# Altium integrated library Maxim Logic Timer.IntLib: 2 symbols
Pins are listed as number, name and electrical type; pins without a type are passive.

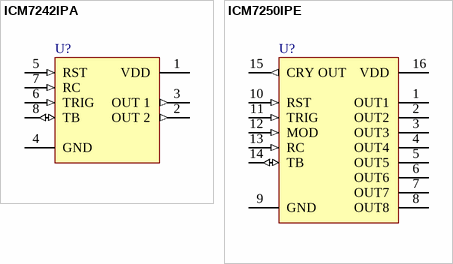
[diagram p0: symbols ICM7242IPA to ICM7250IPE]

## ICM7242IPA
designator U?
Fixed and Programmable Timer/ Counter; Published: 16-Jan-2001; LatestRevisionDate: 29-May-2009; LatestRevisionNote: Component Body Added.; PackageVersion: RevB, 21-0043; PackageReference: PA8; Publisher: Altium Limited; PackageDescription: DIP, 8-Pin, Row Spacing 7.62 mm, Pitch 2.54 mm; Code_JEDEC: MS-001-AB; ComponentLink1Description: Manufacturer Link; ComponentLink1URL: http://www.maxim-ic.com/; ComponentLink2Description: Datasheet; ComponentLink2URL: http://pdfserv.maxim-ic.com/en/ds/ICM7240-ICM7260.pdf
footprint PA8 (DIP, 8-Leads, Row Spacing 7.62mm, Pitch 2.54mm, Body 9.38x7.24mm)
3D model PA8 (DIP, 8-Pin, Row Spacing 7.62 mm, Pitch 2.54 mm)
pins: 1 VDD (power), 2 OUT 2 (out), 3 OUT 1 (out), 4 GND (power), 5 RST (in), 6 TRIG (in), 7 RC (in), 8 TB (io)

## ICM7250IPE
designator U?
Fixed and Programmable Timer/ Counter; Published: 16-Jan-2001; LatestRevisionDate: 29-May-2009; LatestRevisionNote: Component Body Added.; PackageVersion: 1997; PackageReference: PE16A; Publisher: Altium Limited; PackageDescription: DIP, 16-Pin, Row Spacing 7.62 mm, Pitch 2.54 mm; Code_JEDEC: MS-001-BB; ComponentLink1Description: Manufacturer Link; ComponentLink1URL: http://www.maxim-ic.com/; ComponentLink2Description: Datasheet; ComponentLink2URL: http://pdfserv.maxim-ic.com/en/ds/ICM7240-ICM7260.pdf
footprint PE16A (DIP, 16-Leads, Row Spacing 7.62mm, Pitch 2.54mm, Body 19.18x6.99mm)
3D model PE16 (DIP, 16-Pin, Row Spacing 7.62 mm, Pitch 2.54 mm)
pins: 1 OUT1 (oc), 2 OUT2 (oc), 3 OUT3 (oc), 4 OUT4 (oc), 5 OUT5 (oc), 6 OUT6 (oc), 7 OUT7 (oc), 8 OUT8 (oc), 9 GND (power), 10 RST (in), 11 TRIG (in), 12 MOD (in), 13 RC (in), 14 TB (io), 15 CRY OUT (out), 16 VDD (power)